# Altium footprint library ES_Pcb_x.PcbLib: 354 footprints (part 23 of 23)
Each footprint in its own frame and in the unit in brackets; x right, y up, seen from the top. Pads: shape width x height; smd on the part's side, far side on the other; paste and mask are expansions set on the pad; w line width, h text height; cw(c..) or ccw(c..) is an arc to the next point about the centre after c.
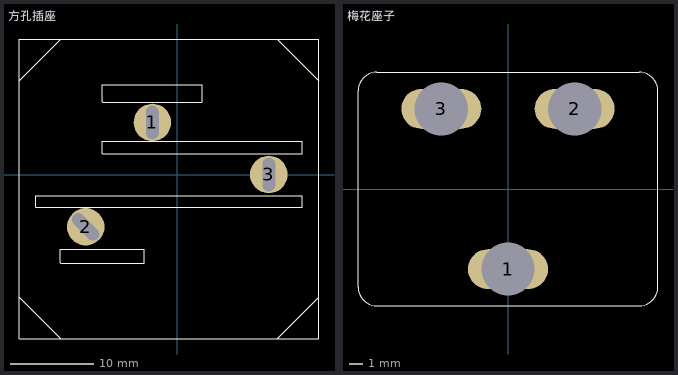
[diagram p22: the footprints below, top view; thin cyan lines are the x and y axes]

## 方孔插座 [mm]
pads (3):
  round 4.5 hole 4 slot 1.5 at 0 deg: 1(-2.984,6.261) 3(10.986,0.013)
  round 4.5 hole 4 slot 1.5 at 45 deg: 2(-10.986,-6.261)
Top Overlay:
  lines w0.01: -18.986,-14.719 -18.986,-19.723 -13.983,-19.723 ; -18.986,-14.719 -18.986,11.265 ; -18.986,-14.719 -13.983,-19.723 ; -18.986,11.265 -18.986,16.269 -13.983,16.269 ; -18.986,11.265 -13.983,16.269 ; -13.983,-19.723 12.002,-19.723 ; -13.983,16.269 12.002,16.269 ; 12.002,-19.723 17.005,-19.723 17.005,-14.719 ; 12.002,-19.723 17.005,-14.719 ; 12.002,16.269 17.005,16.269 17.005,11.265 ; 12.002,16.269 17.005,11.265 ; 17.005,-14.719 17.005,11.265
  lines w0.127: -16.98,-3.924 -16.98,-2.553 14.999,-2.553 14.999,-3.924 -16.954,-3.924 -16.967,-3.937 -16.98,-3.924 ; -14.034,-10.554 -14.034,-8.928 -3.975,-8.928 -3.975,-10.617 -13.97,-10.617 -14.034,-10.554 ; -8.979,2.502 14.999,2.502 14.999,3.975 -8.979,3.975 -8.979,2.502 ; -8.979,8.75 -8.915,8.687 2.946,8.687 3.01,8.75 3.01,10.782 -8.979,10.782 -8.979,8.75

## 梅花座子 [mm]
pads (3):
  oval 6x3 hole 4 square: 1(0,-6.007) 2(5.004,6.007) 3(-5.004,6.007)
Top Overlay:
  lines w0.01: -9.83,8.776 ccw(c-9.817,7.341) -11.252,7.353 -11.252,-7.353 ccw(c-9.817,-7.341) -9.83,-8.776 0,-8.776 2.311,-8.776 9.83,-8.776 ccw(c9.817,-7.341) 11.252,-7.353 11.252,7.353 ccw(c9.817,7.341) 9.83,8.776 ; -9.83,8.776 0,8.776 ; -9.83,8.776 0,8.776 ; 0,8.776 9.83,8.776 ; 0,8.776 2.083,8.776 9.83,8.776